# EAGLE library part SN65HVD320 (library SPST-switch)
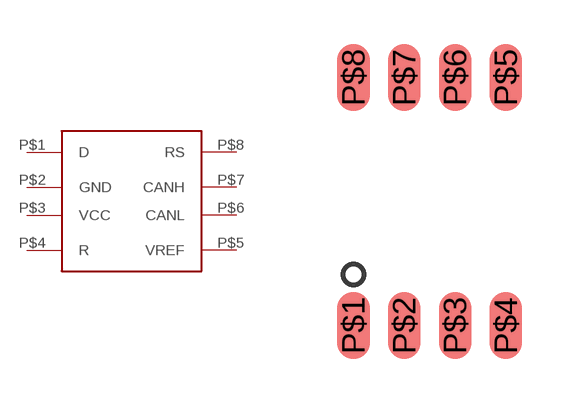
[diagram p0: symbol with the pads of SN65HVD320; footprint SN65HVD320]

Designator prefix -

## SN65HVD320  [SN65HVD320]
P$1  D
P$2  GND
P$3  VCC
P$4  R
P$5  VREF
P$6  CANL
P$7  CANH
P$8  RS

## Footprint SN65HVD320 (pad centres in mm)
smd 0.813 x 1.676: P$1 0,0; P$2 1.27,0; P$3 2.54,0; P$4 3.81,0; P$5 3.81,6.2; P$6 2.54,6.2; P$7 1.27,6.2; P$8 0,6.2